# Altium footprint library Netra_OBC_aux_power_board.PcbLib: 5 footprints
Each footprint in its own frame and in the unit in brackets; x right, y up, seen from the top. Pads: shape width x height; smd on the part's side, far side on the other; paste and mask are expansions set on the pad; w line width, h text height; cw(c..) or ccw(c..) is an arc to the next point about the centre after c.
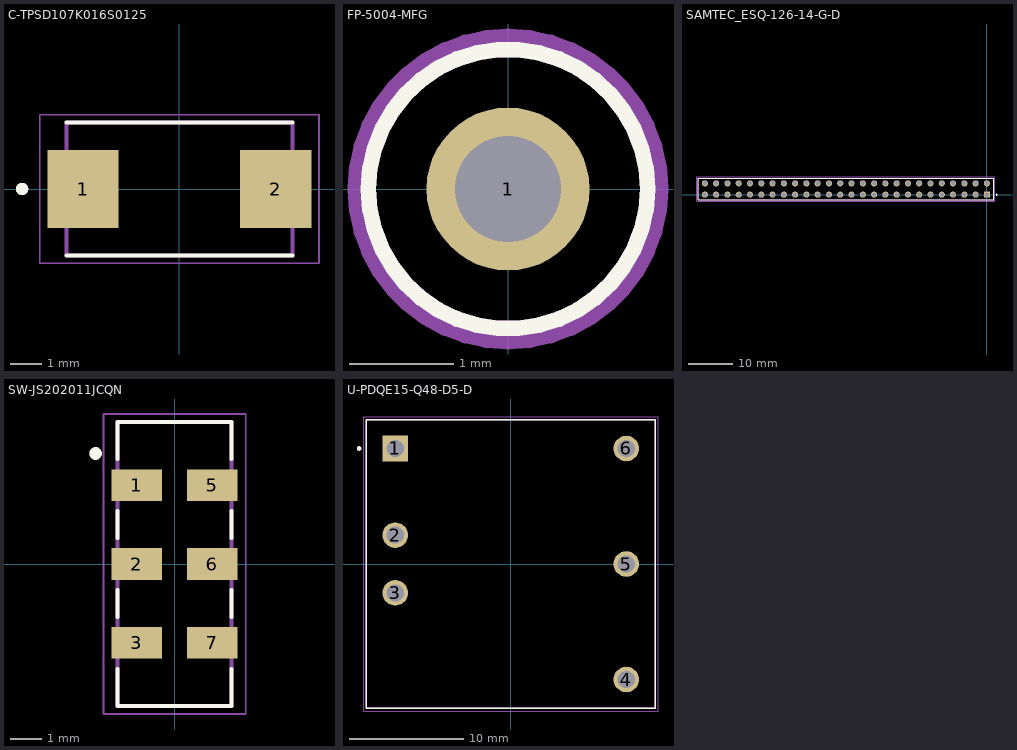
[diagram p0: the footprints below, top view; thin cyan lines are the x and y axes]

## C-TPSD107K016S0125 [mm]
pads (2):
  rect 2.3x2.52 smd: 1(-3.11,0) 2(3.11,0)
Top Overlay:
  circle w0.2: c-5.08,0 r0.1
  lines w0.127: -3.65,-2.15 3.65,-2.15 ; -3.65,2.15 3.65,2.15
Mechanical 13:
  circle w0.2: c-5.08,0 r0.1
  lines w0.127: -3.65,-2.15 -3.65,2.15 3.65,2.15 3.65,-2.15 -3.65,-2.15
Mechanical 15:
  lines w0.05: -4.51,-2.4 -4.51,2.4 4.51,2.4 4.51,-2.4 -4.51,-2.4
3D body: height 12.7, standoff -12.7, extent -4.445,-2.413 4.445,2.413

## FP-5004-MFG [mm]
pads (1):
  round 1.57 hole 1.02 paste-1000 mask+0: 1(0,0)
Top Overlay:
  circle w0.15: c0,0 r1.345
Top 3D Body:
  circle w0.15: c0,0 r1.345
Top Courtyard:
  lines w0.2: -1.445,0 cw(c0,0) 1.445,0 cw(c0,0) -1.445,0
Top Assembly:
  text ".Designator" at 0,0.188 h1
Top Component Center:
  lines w0.1: -0.5,0 0.5,0 ; 0,-0.5 0,0.5
3D body "Conn_Keystone_5004_eec.STEP": height 0.25, standoff 0, extent -1.445,-1.445 1.445,1.445

## SAMTEC_ESQ-126-14-G-D [mm]
pads (52):
  rect 1.37x1.37 hole 1.02: 01(0,0)
  round 1.37 hole 1.02: 02(0,2.54) 03(-2.54,0) 04(-2.54,2.54) 05(-5.08,0) 06(-5.08,2.54) 07(-7.62,0) 08(-7.62,2.54) 09(-10.16,0) 10(-10.16,2.54) 11(-12.7,0) 12(-12.7,2.54) 13(-15.24,0) 14(-15.24,2.54) 15(-17.78,0) 16(-17.78,2.54) 17(-20.32,0) 18(-20.32,2.54) 19(-22.86,0) 20(-22.86,2.54) 21(-25.4,0) 22(-25.4,2.54) 23(-27.94,0) 24(-27.94,2.54) 25(-30.48,0) 26(-30.48,2.54) 27(-33.02,0) 28(-33.02,2.54) 29(-35.56,0) 30(-35.56,2.54) 31(-38.1,0) 32(-38.1,2.54) 33(-40.64,0) 34(-40.64,2.54) 35(-43.18,0) 36(-43.18,2.54) 37(-45.72,0) 38(-45.72,2.54) 39(-48.26,0) 40(-48.26,2.54) 41(-50.8,0) 42(-50.8,2.54) 43(-53.34,0) 44(-53.34,2.54) 45(-55.88,0) 46(-55.88,2.54) 47(-58.42,0) 48(-58.42,2.54) 49(-60.96,0) 50(-60.96,2.54) 51(-63.5,0) 52(-63.5,2.54)
Top Overlay:
  circle w0.2: c2.175,0 r0.1
  lines w0.2: -65.025,-1.205 1.525,-1.205 1.525,3.745 -65.025,3.745 -65.025,-1.205
Mechanical 13:
  circle w0.2: c2.175,0 r0.1
  lines w0.1: -65.025,-1.205 -65.025,3.745 ; -65.025,-1.205 1.525,-1.205 ; -65.025,-1.205 -65.025,3.745 ; -65.025,3.745 1.525,3.745 ; -65.025,3.745 1.525,3.745 ; 1.525,-1.205 1.525,3.745 ; 1.525,-1.205 1.525,3.745
Mechanical 15:
  lines w0.05: -65.275,-1.455 1.775,-1.455 1.775,3.995 -65.275,3.995 -65.275,-1.455

## SW-JS202011JCQN [mm]
pads (6):
  rect 1.6x1 smd: 1(-1.2,2.5) 2(-1.2,0) 3(-1.2,-2.5) 5(1.2,2.5) 6(1.2,0) 7(1.2,-2.5)
Top Overlay:
  circle w0.2: c-2.5,3.5 r0.1
  lines w0.127: -1.8,-3.32 -1.8,-4.5 1.8,-4.5 1.8,-3.32 ; -1.8,-1.68 -1.8,-0.82 ; -1.8,0.82 -1.8,1.68 ; -1.8,3.32 -1.8,4.5 1.8,4.5 1.8,3.32 ; 1.8,-1.68 1.8,-0.82 ; 1.8,0.82 1.8,1.68
Mechanical 13:
  circle w0.2: c-2.5,3.5 r0.1
  lines w0.127: -1.8,-4.5 1.8,-4.5 1.8,4.5 -1.8,4.5 -1.8,-4.5
Mechanical 15:
  lines w0.05: -2.25,-4.75 2.25,-4.75 2.25,4.75 -2.25,4.75 -2.25,-4.75
3D body "JS202011JCQN--3DModel-STEP-1.STEP": height 5.6, standoff 0, extent -1.673,-4.373 1.927,4.627

## U-PDQE15-Q48-D5-D [mm]
pads (6):
  rect 2.25x2.25 hole 1.5: 1(-10.16,10.16)
  round 2.25 hole 1.5: 2(-10.16,2.54) 3(-10.16,-2.54) 4(10.16,-10.16) 5(10.16,0) 6(10.16,10.16)
Top Overlay:
  circle w0.2: c-13.335,10.16 r0.1
  lines w0.127: -12.7,-12.7 -12.7,12.7 12.7,12.7 12.7,-12.7 -12.7,-12.7
Mechanical 13:
  circle w0.2: c-13.335,10.16 r0.1
  lines w0.127: -12.7,-12.7 -12.7,12.7 12.7,12.7 12.7,-12.7 -12.7,-12.7
Mechanical 15:
  lines w0.05: -12.95,-12.95 -12.95,12.95 12.95,12.95 12.95,-12.95 -12.95,-12.95
3D body "PDQE15-Q24-S5-D--3DModel-STEP-293084.STEP": height 11.83, standoff -3.97, extent -12.7,-12.7 12.7,12.7